# Altium footprint library Connector_Footprints.PcbLib: 18 footprints (part 1 of 2)
Each footprint in its own frame and in the unit in brackets; x right, y up, seen from the top. Pads: shape width x height; smd on the part's side, far side on the other; paste and mask are expansions set on the pad; w line width, h text height; cw(c..) or ccw(c..) is an arc to the next point about the centre after c.
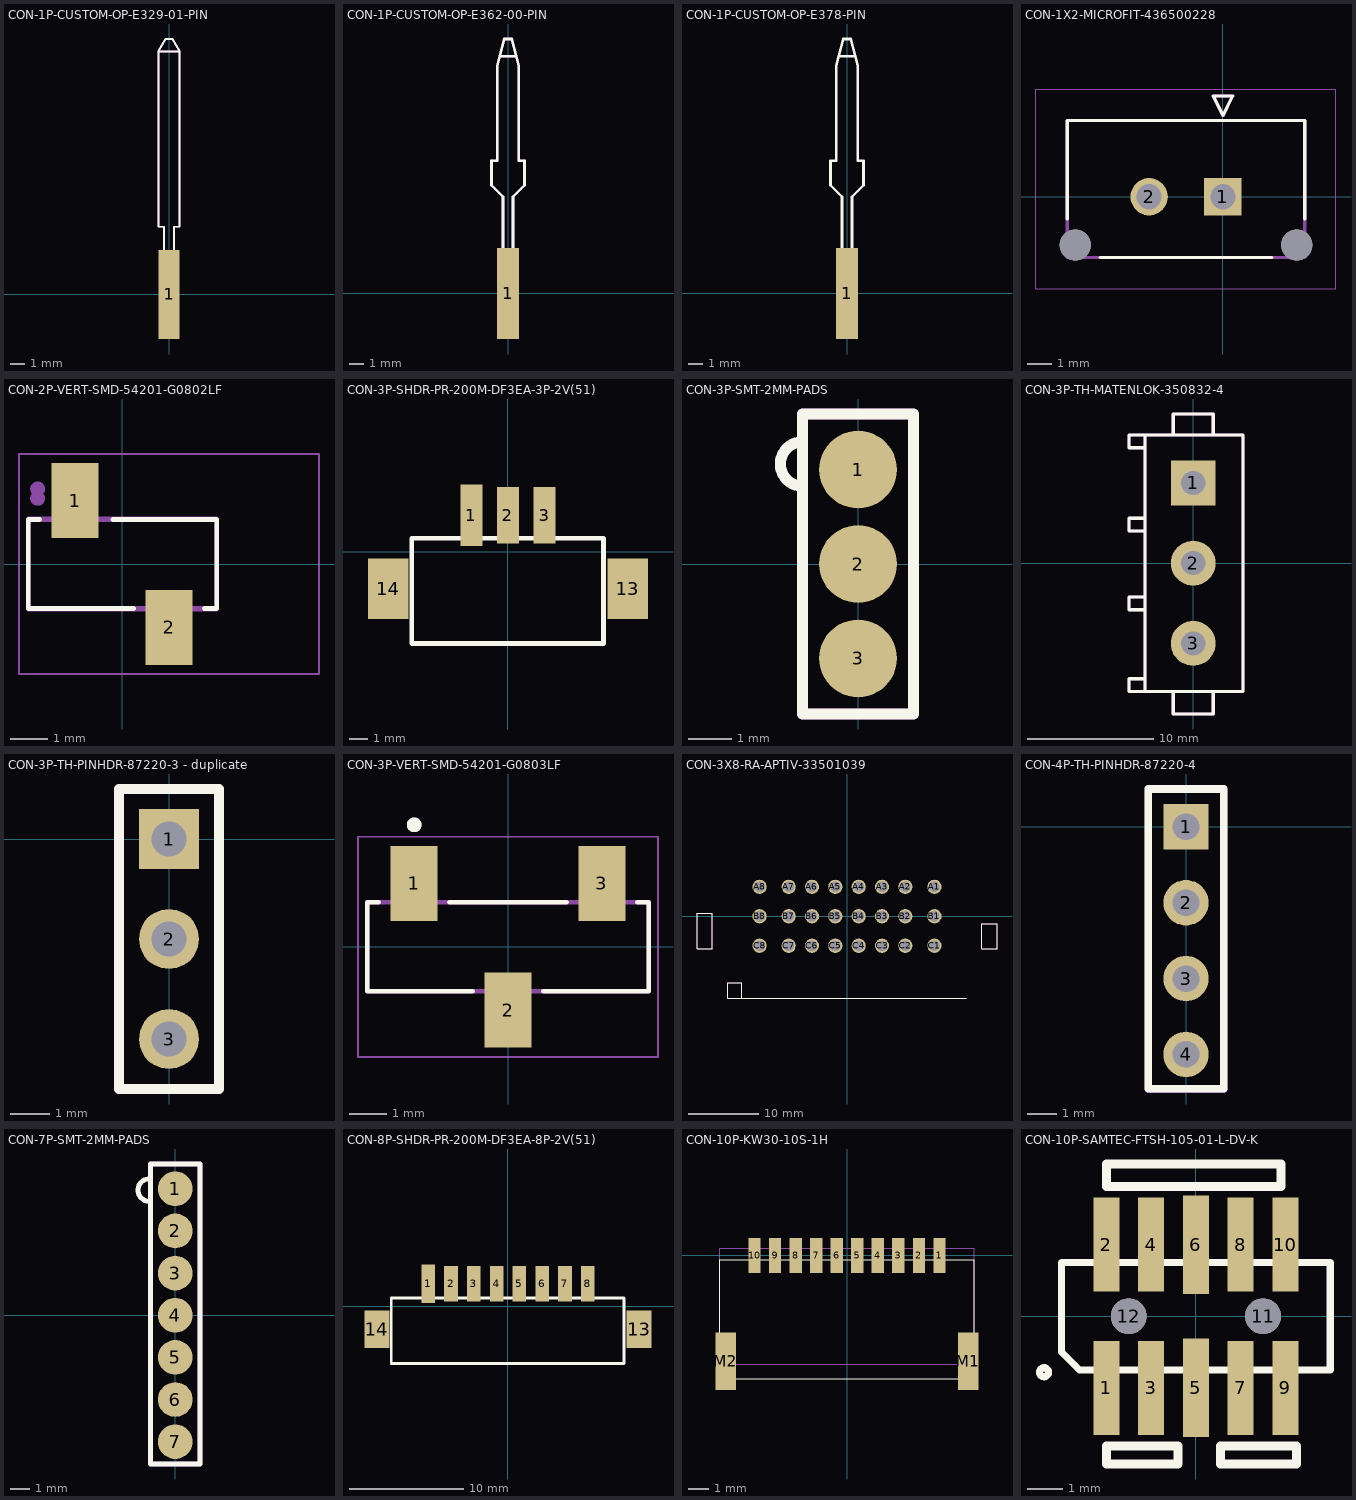
[diagram p0: the footprints below, top view; thin cyan lines are the x and y axes]

## CON-1P-CUSTOM-OP-E329-01-PIN [mil]
pads (1):
  rect 60x250 smd: 1(0,0)
Top Overlay:
  lines w5: -29.45,682.14 cw(c-5.82,682.14) -29.41,683.55 -9.77,717.57 9.92,717.57 29.56,683.55 cw(c5.98,682.14) 29.6,682.14 ; -29.45,682.14 -29.45,190.01 -13.9,190.01 -13.9,-109.2 14.05,-109.2 14.05,190.01 29.6,190.01 29.6,682.14 ; -29.45,682.14 29.6,682.14
Top Assembly:
  lines w5: -29.41,682.14 cw(c-5.78,682.14) -29.37,683.55 -9.73,717.57 9.96,717.57 29.6,683.55 cw(c6.02,682.14) 29.64,682.14 ; -29.41,682.14 -29.41,190.01 -13.86,190.01 -13.86,-109.2 14.09,-109.2 14.09,190.01 29.64,190.01 29.64,682.14 ; -29.41,682.14 29.64,682.14
Bottom Assembly:
  lines w5: -29.41,682.18 cw(c-5.78,682.18) -29.37,683.59 -9.73,717.61 9.96,717.61 29.6,683.59 cw(c6.02,682.18) 29.64,682.18 ; -29.41,682.18 -29.41,190.05 -13.86,190.05 -13.86,-109.16 14.09,-109.16 14.09,190.05 29.64,190.05 29.64,682.18 ; -29.41,682.18 29.64,682.18
3D body "E329-01_00.stp": height 31.5, standoff 0, extent -29.57,-109.35 29.49,717.42

## CON-1P-CUSTOM-OP-E362-00-PIN [mil]
pads (1):
  rect 60x250 smd: 1(0,0)
Top Overlay:
  lines w7: -22.5,651.4 22.5,651.4 ; -22.5,651.4 -29.53,625.18 -29.53,364 -45.28,364 -45.28,297.07 -13.78,265.57 -13.78,-99.51 ccw(c-3.94,-99.51) -3.94,-109.35 3.93,-109.35 ccw(c3.93,-99.51) 13.78,-99.51 13.78,265.57 45.27,297.07 45.27,364 29.52,364 29.52,625.18 22.5,651.4 ; -22.5,651.4 -9.85,698.65 9.84,698.65 22.5,651.4
Top Assembly:
  lines w7: -22.51,651.44 22.5,651.44 ; -22.51,651.44 -29.53,625.22 -29.53,364.04 -45.28,364.04 -45.28,297.11 -13.78,265.61 -13.78,-99.47 ccw(c-3.94,-99.47) -3.94,-109.32 3.93,-109.31 ccw(c3.93,-99.47) 13.78,-99.47 13.78,265.61 45.27,297.11 45.27,364.04 29.52,364.04 29.52,625.22 22.5,651.44 ; -22.51,651.44 -9.85,698.69 9.84,698.69 22.5,651.44
3D body "E378-00_00.stp": height 32.48, standoff 0, extent -44.8,-123.2 45.75,684.8

## CON-1P-CUSTOM-OP-E378-PIN [mil]
pads (1):
  rect 60x250 smd: 1(0,0)
Top Overlay:
  lines w7: -22.5,651.4 22.5,651.4 ; -22.5,651.4 -29.53,625.18 -29.53,364 -45.28,364 -45.28,297.07 -13.78,265.57 -13.78,-99.51 ccw(c-3.94,-99.51) -3.94,-109.35 3.93,-109.35 ccw(c3.93,-99.51) 13.78,-99.51 13.78,265.57 45.27,297.07 45.27,364 29.52,364 29.52,625.18 22.5,651.4 ; -22.5,651.4 -9.85,698.65 9.84,698.65 22.5,651.4
3D body "E378-00_00.stp": height 32.48, standoff 0, extent -44.8,-123.2 45.75,684.8

## CON-1X2-MICROFIT-436500228 [mm]
height 9.9
pads (4):
  rect 1.52x1.52 / inner round 1.52 / far side rect 1.52x1.52 hole 1.02 mask+0.076: 1(0,0)
  round 1.52 hole 1.02 mask+0.076: 2(-3,0)
  round 1.27 hole 1.27 unplated mask+0.076: ""(-6,-1.96) ""(3,-1.96)
Top Overlay:
  lines w0.127: -6.325,-0.9 -6.325,3.1 3.325,3.1 3.325,-0.9 ; -5,-2.47 2,-2.47 ; -0.4,4.1 0,3.3 0.4,4.1 -0.4,4.1
Mechanical 13:
  lines w0.127: -6.325,-2.47 -6.325,3.1 3.325,3.1 3.325,-2.47 -6.325,-2.47 ; -0.4,4.1 0,3.3 0.4,4.1 -0.4,4.1
Mechanical 15:
  lines w0.05: -7.595,-3.74 -7.595,4.37 4.595,4.37 4.595,-3.74 -7.595,-3.74
3D body "Molex_Micro-Fit_1x2_436500228.STEP": height 9.9, standoff -3.18, extent -6.313,-2.508 3.337,3.062

## CON-2P-VERT-SMD-54201-G0802LF [mm] "Pin Header"
pads (2):
  rect 1.27x2.03 smd: 1(-1.27,1.715) 2(1.27,-1.715)
Top Overlay:
  lines w0.127: -2.225,1.205 -2.54,1.205 -2.54,-1.205 0.315,-1.205 ; -0.254,1.205 2.565,1.205 2.565,-1.205 2.225,-1.205
Top Assembly:
  circle w0.2: c-2.286,1.778 r0.1
  lines w0.127: -2.54,-1.205 -2.54,1.205 2.565,1.205 2.565,-1.205 -2.54,-1.205
Top Assembly (Mech4):
  circle w0.2: c-2.286,2.032 r0.1
  lines w0.127: -2.54,-1.219 2.565,-1.219 2.565,1.219 -2.54,1.219 -2.54,-1.219
Mechanical 15:
  lines w0.05: -2.79,-2.98 -2.79,2.98 5.33,2.98 5.33,-2.98 -2.79,-2.98
3D body "PinHeader_1x02_P2.54mm_Vertical_SMD_Pin1Right.step": height 9.3, standoff 0, extent -2.54,-2.5 2.54,2.5

## CON-3P-SHDR-PR-200M-DF3EA-3P-2V(51) [mm] "Hirose, DF3A Series, 3P"
pads (5):
  rect 1.2x3.354 smd: 1(-2,2)
  rect 1.2x3.1 smd: 2(0,2) 3(2,2)
  rect 2.2x3.3 smd: 13(6.52,-2) 14(-6.52,-2)
Top Overlay:
  lines w0.254: -5.25,-4.991 5.2,-4.991 5.2,0.75 -5.25,0.75 -5.25,-4.991
3D body "DF3EA-3P-2V(51).STEP": height 5.87, standoff -0.03, extent -6.75,-4.559 6.75,3.041

## CON-3P-SMT-2MM-PADS [mil] "Connector, 1x3, Special, OP Programming, 2MM PADs"
height 353.4
pads (3):
  round 70 smd paste-99999: 1(0,85) 2(0,0) 3(0,-85)
Top Overlay:
  lines w10: -50,70 cw(c-50,90) -70,90 cw(c-50,90) -50,110 ; -50,-135 50,-135 50,135 -50,135 -50,-135
Top Assembly (Mech4):
  lines w10: -50,-135 -50,135 50,135 50,-135 -50,-135

## CON-3P-TH-MATENLOK-350832-4 [mil]
height 353.4
pads (3):
  rect 140x140 / inner round 140 / far side rect 140x140 hole 75: 1(0,250)
  round 140 hole 75: 2(0,0) 3(0,-250)
Top Overlay:
  lines w10: -150,-400 155,-400 155,400 -150,400 ; -150,-400 -150,400 ; -150,-400 -200,-400 -200,-360 -150,-360 -150,-400 ; -150,400 -200,400 -200,360 -150,360 -150,400 ; -200,-145 -200,-105 -150,-105 -150,-145 -200,-145 ; -200,100 -200,140 -150,140 -150,100 -200,100 ; -62.5,-470 62.5,-470 62.5,-400 -62.5,-400 -62.5,-470 ; -62.5,400 62.5,400 62.5,465 -62.5,465 -62.5,400
Top Assembly (Mech4):
  lines w10: -150,-400 -150,400 ; -150,-400 -150,-360 -200,-360 -200,-400 -150,-400 ; -150,-400 155,-400 155,400 -150,400 ; -150,400 -150,360 -200,360 -200,400 -150,400 ; -200,-145 -200,-105 -150,-105 -150,-145 -200,-145 ; -200,100 -200,140 -150,140 -150,100 -200,100 ; -62.5,-470 62.5,-470 62.5,-400 -62.5,-400 -62.5,-470 ; -62.5,400 62.5,400 62.5,465 -62.5,465 -62.5,400
3D body "CON_MatenLok_350832-4.stp": height 582.5, standoff -201, extent -200,-500 150,500

## CON-3P-TH-PINHDR-87220-3 - duplicate [mil] "Connector, 1x3, Breakaway Pin Header, TH"
height 353.4
pads (3):
  rect 60x60 / inner round 60 / far side rect 60x60 hole 35: 1(0,0)
  round 60 hole 35: 2(0,-100) 3(0,-200)
Top Overlay:
  lines w10: -50,-250 -50,50 50,50 50,-250 -50,-250
Top Assembly (Mech4):
  lines w10: -50,-250 -50,50 50,50 50,-250 -50,-250
3D body "CON_3P_TH_87220-3.STEP": height 408, standoff -125, extent -46,-242 46,42

## CON-3P-VERT-SMD-54201-G0803LF [mm] "Pin Header"
pads (3):
  rect 1.27x2.03 smd: 1(-2.54,1.715) 2(0,-1.715) 3(2.54,1.715)
Top Overlay:
  circle w0.2: c-2.54,3.302 r0.1
  lines w0.127: -3.495,1.205 -3.81,1.205 -3.81,-1.205 -0.955,-1.205 ; -1.585,1.205 1.585,1.205 ; 0.955,-1.205 3.81,-1.205 3.81,1.205 3.495,1.205
Mechanical 13:
  circle w0.2: c-2.54,3.302 r0.1
  lines w0.127: -3.81,-1.205 -3.81,1.205 3.81,1.205 3.81,-1.205 -3.81,-1.205
Mechanical 15:
  lines w0.05: -4.06,-2.98 -4.06,2.98 4.06,2.98 4.06,-2.98 -4.06,-2.98
3D body "step_temp.STEP": height 9.6, standoff -0.05, extent -3.81,-2.418 3.81,2.418

## CON-3X8-RA-APTIV-33501039 [mm]
pads (24):
  round 2.032 hole 1.5: A1(12.475,4.2) A2(8.325,4.2) A3(4.995,4.2) A4(1.665,4.2) A5(-1.665,4.2) A6(-4.995,4.2) A7(-8.325,4.2) A8(-12.475,4.2) B1(12.475,0) B2(8.325,0) B3(4.995,0) B4(1.665,0) B5(-1.665,0) B6(-4.995,0) B7(-8.325,0) B8(-12.475,0) C1(12.475,-4.2) C2(8.325,-4.2) C3(4.995,-4.2) C4(1.665,-4.2) C5(-1.665,-4.2) C6(-4.995,-4.2) C7(-8.325,-4.2) C8(-12.475,-4.2)
Top Overlay:
  lines w0.152: 17,-11.7 -17,-11.7 ; -17,-11.7 -15,-11.7 -15,-9.5 -17,-9.5 -17,-11.7 ; -21.4,-4.6 -19.2,-4.6 -19.2,0.4 -21.4,0.4 -21.4,-4.6 ; 19.2,-4.6 21.4,-4.6 21.4,-1.1 19.2,-1.1 19.2,-4.6
Bottom Assembly:
  lines w0.152: 17,-11.7 -17,-11.7 ; -17,-11.7 -15,-11.7 -15,-9.5 -17,-9.5 -17,-11.7 ; -21.4,-4.6 -19.2,-4.6 -19.2,0.4 -21.4,0.4 -21.4,-4.6 ; 19.2,-4.6 19.2,-1.1 21.4,-1.1 21.4,-4.6 19.2,-4.6

## CON-4P-TH-PINHDR-87220-4 [mil] "Connector, 1x4, Breakaway Pin Header, TH"
height 353.4
pads (4):
  rect 60x60 / inner round 60 / far side rect 60x60 hole 35: 1(0,0)
  round 60 hole 35: 2(0,-100) 3(0,-200) 4(0,-300)
Top Overlay:
  lines w10: -50,-345.39 50,-345.39 50,50 -50,50 -50,-345.39
Top Assembly (Mech4):
  lines w10: -50,-345.63 50,-345.63 50,50 -50,50 -50,-345.63
3D body "CON_4P_TH_87220-4.stp": height 409, standoff -124, extent -44.5,-339.95 47.5,44.05

## CON-7P-SMT-2MM-PADS [mil] "Connector, 1x37 Special, OP Programming, 2MM PADs"
height 353.4
pads (7):
  round 70 smd paste-99999: 1(0,255) 2(0,170) 3(0,85) 4(0,0) 5(0,-85) 6(0,-170) 7(0,-255)
Top Overlay:
  lines w10: -55,275 ccw(c-52.5,252.5) -75,250 ccw(c-52.5,252.5) -50,230 ; -50,-300 -25,-300 25,-300 50,-300 50,305 -50,305 -50,-300
Top Assembly (Mech4):
  lines w10: -50,-300 -25,-300 25,-300 50,-300 50,305 -50,305 -50,-300

## CON-8P-SHDR-PR-200M-DF3EA-8P-2V(51) [mm] "Hirose, DF3A, 8 pin"
pads (10):
  rect 1.2x3.354 smd: 1(-7,2)
  rect 1.2x3.1 smd: 2(-5,2) 3(-3,2) 4(-1,2) 5(1,2) 6(3,2) 7(5,2) 8(7,2)
  rect 2.2x3.3 smd: 13(11.52,-2) 14(-11.52,-2)
Top Overlay:
  lines w0.254: -10.25,-5 -10.25,0.75 10.2,0.75 10.2,-5 -10.25,-5
3D body "DF3EA-8P-2V(51).STEP": height 5.9, standoff 0, extent -11.75,-4.864 11.75,2.736

## CON-10P-KW30-10S-1H [mm]
pads (12):
  rect 0.6x1.7 smd: 1(4.5,0) 2(3.5,0) 3(2.5,0) 4(1.5,0) 5(0.5,0) 6(-0.5,0) 7(-1.5,0) 8(-2.5,0) 9(-3.5,0) 10(-4.5,0)
  rect 1x2.8 smd: M1(5.9,-5.16) M2(-5.9,-5.16)
Top Overlay:
  lines w0.025: -6.2,-6 -6.2,-0.22 6.2,-0.22 6.2,-6 -6.2,-6
Top Assembly (Mech4):
  lines w0.025: -6.2,-5.3 -6.2,0.35 6.2,0.35 6.2,-5.3 -6.2,-5.3
3D body "KW30-10S-1H(800)_4800831000_STEP.stp": height 3.94, standoff -0.01, extent -6,-6.15 6,0

## CON-10P-SAMTEC-FTSH-105-01-L-DV-K [mil]
pads (12):
  rect 29x105 smd: 1(-100,-80) 2(-100,80) 3(-50,-80) 4(-50,80) 7(50,-80) 8(50,80) 9(100,-80) 10(100,80)
  rect 29x110 smd: 5(0,-80) 6(0,80)
  round 40 hole 40 unplated: 11(75,0) 12(-75,0)
Top Overlay:
  circle w8: c-169.5,-62.5 r5
  lines w8: -150,-40 -130,-60 150,-60 150,60 -150,60 -150,-40
  lines w10: -100,-165 -20,-165 -20,-145 -100,-145 -100,-165 ; -100,145 -100,170 95,170 95,145 -100,145 ; 27.5,-165 112.5,-165 112.5,-145 27.5,-145 27.5,-165
3D body "Samtec_FTSH_2X5.step": height 235, standoff 0, extent -125,-122.99 125,122.99